# EAGLE library part OLIMEX_IC_AXP209 (library A13-OLinuXino_WIFI_Rev_G)
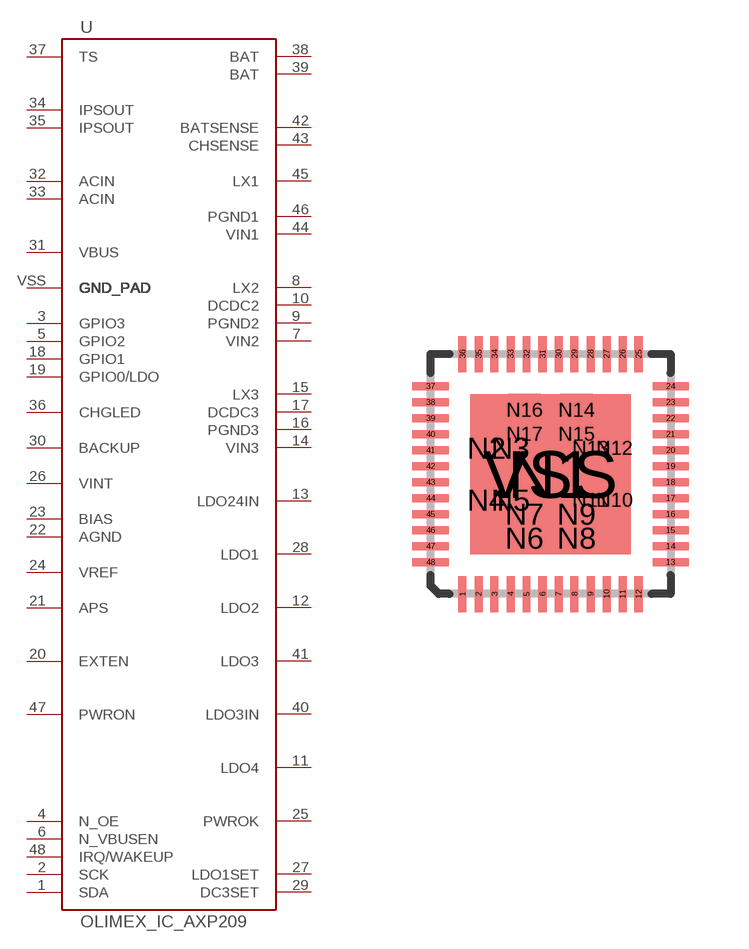
[diagram p7: symbol with the pads of OLIMEX_IC_QFN48; footprint OLIMEX_IC_QFN48]

Designator prefix U

## OLIMEX_IC_AXP209  [OLIMEX_IC_QFN48]
1  SDA
2  SCK  in
3  GPIO3
4  N_OE  in
5  GPIO2
6  N_VBUSEN  in
7  VIN2  pwr
8  LX2
9  PGND2  pwr
10  DCDC2  in
11  LDO4  out
12  LDO2  out
13  LDO24IN  pwr
14  VIN3  pwr
15  LX3
16  PGND3  pwr
17  DCDC3  in
18  GPIO1
19  GPIO0/LDO
20  EXTEN
21  APS  pwr
22  AGND  pwr
23  BIAS
24  VREF  out
25  PWROK  out
26  VINT  pwr
27  LDO1SET  in
28  LDO1  out
29  DC3SET  in
30  BACKUP
31  VBUS  pwr
32  ACIN  pwr
33  ACIN  pwr
34  IPSOUT
35  IPSOUT
36  CHGLED  out
37  TS  in
38  BAT  pwr
39  BAT  pwr
40  LDO3IN  out
41  LDO3  in
42  BATSENSE  in
43  CHSENSE  out
44  VIN1  pwr
45  LX1
46  PGND1  pwr
47  PWRON  in
48  IRQ/WAKEUP
N1  GND_PAD  in
N2  GND_PAD  in
N3  GND_PAD  in
N4  GND_PAD  in
N5  GND_PAD  in
N6  GND_PAD  in
N7  GND_PAD  in
N8  GND_PAD  in
N9  GND_PAD  in
N10  GND_PAD  in
N11  GND_PAD  in
N12  GND_PAD  in
N13  GND_PAD  in
N14  GND_PAD  in
N15  GND_PAD  in
N16  GND_PAD  in
N17  GND_PAD  in
VSS  GND_PAD  in

## Footprint OLIMEX_IC_QFN48 (pad centres in mm)
smd 0.2 x 0.9: 1 -2.2,-3; 2 -1.8,-3; 3 -1.4,-3; 4 -1,-3; 5 -0.6,-3; 6 -0.2,-3; 7 0.2,-3; 8 0.6,-3; 9 1,-3; 10 1.4,-3; 11 1.8,-3; 12 2.2,-3; 25 2.2,3; 26 1.8,3; 27 1.4,3; 28 1,3; 29 0.6,3; 30 0.2,3; 31 -0.2,3; 32 -0.6,3; 33 -1,3; 34 -1.4,3; 35 -1.8,3; 36 -2.2,3
smd 0.9 x 0.2: 13 3,-2.2; 14 3,-1.8; 15 3,-1.4; 16 3,-1; 17 3,-0.6; 18 3,-0.2; 19 3,0.2; 20 3,0.6; 21 3,1; 22 3,1.4; 23 3,1.8; 24 3,2.2; 37 -3,2.2; 38 -3,1.8; 39 -3,1.4; 40 -3,1; 41 -3,0.6; 42 -3,0.2; 43 -3,-0.2; 44 -3,-0.6; 45 -3,-1; 46 -3,-1.4; 47 -3,-1.8; 48 -3,-2.2
drill 1.2 pad 1.422 square: N1 0,0
drill 0.3 pad 0.4 square: N2 -1.6,0.65; N3 -1,0.65; N4 -1.6,-0.65; N5 -1,-0.65; N6 -0.65,-1.6; N7 -0.65,-1; N8 0.65,-1.6; N9 0.65,-1; N10 1.6,-0.65; N11 1,-0.65; N12 1.6,0.65; N13 1,0.65; N14 0.65,1.6; N15 0.65,1; N16 -0.65,1.6; N17 -0.65,1
smd 4 x 4: VSS 0,0